# Altium footprint library B72214S0351K101.PcbLib: 1 footprints
Each footprint in its own frame and in the unit in brackets; x right, y up, seen from the top. Pads: shape width x height; smd on the part's side, far side on the other; paste and mask are expansions set on the pad; w line width, h text height; cw(c..) or ccw(c..) is an arc to the next point about the centre after c.
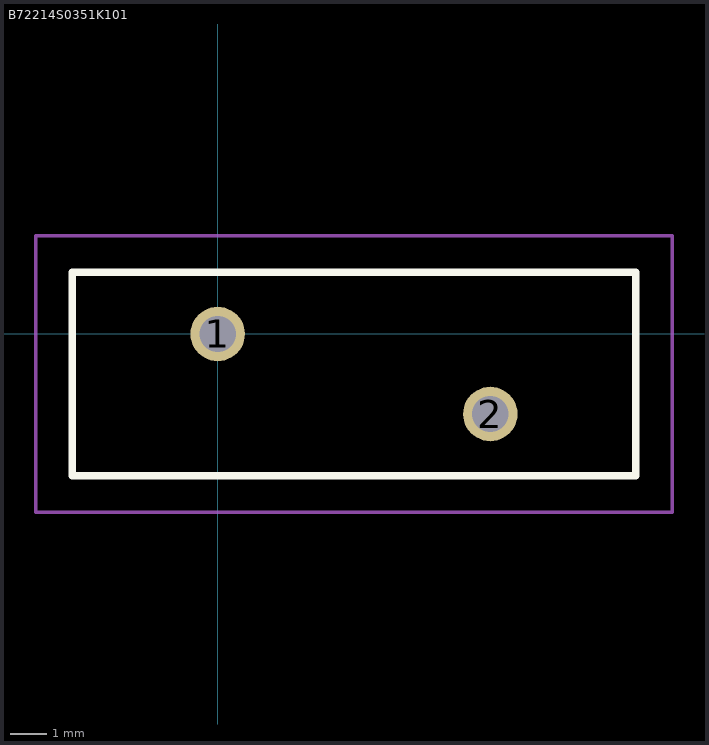
[diagram p0: the footprint, top view; thin cyan lines are the x and y axes]

## B72214S0351K101 [mm]
pads (2):
  round 1.5 hole 1: 1(0,0) 2(7.5,-2.2)
Top Overlay:
  lines w0.2: -4,-3.9 11.5,-3.9 11.5,1.7 -4,1.7 -4,-3.9
Mechanical 15:
  lines w0.1: -4,-3.9 11.5,-3.9 11.5,1.7 -4,1.7 -4,-3.9
Mechanical 20:
  lines w0.1: -5,-4.9 12.5,-4.9 12.5,2.7 -5,2.7 -5,-4.9